# EAGLE library part LSM9DS0 (library sensor)
I2C or SPI type 9 Axis inertial measurement sensor
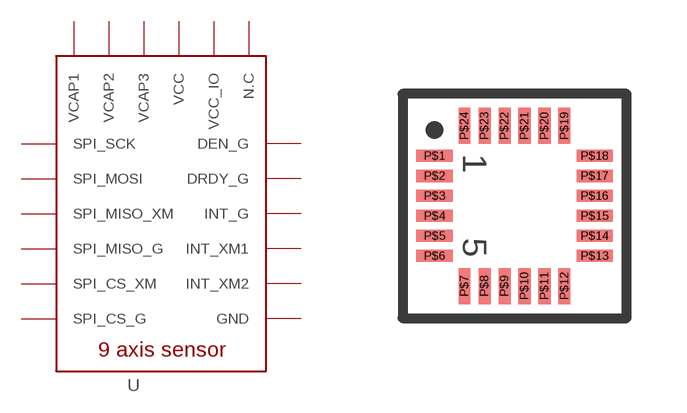
[diagram p0: symbol with the pads of LGA24; footprint LGA24]

Designator prefix U

## LSM9DS0  [LGA24]
P$1  N.C  nc
P$2  GND  sup
P$3  GND  sup
P$4  GND  sup
P$5  GND  sup
P$6  GND  sup
P$7  VCAP1  pas
P$8  VCAP2  pas
P$9  VCAP3  pas
P$10  DEN_G
P$11  INT_G
P$12  DRDY_G
P$13  INT_XM1
P$14  INT_XM2
P$15  VCC  pwr
P$16  VCC  pwr
P$17  VCC  pwr
P$18  VCC_IO  pwr
P$19  SPI_CS_G  in
P$20  SPI_CS_XM  in
P$21  SPI_SCK  in
P$22  SPI_MISO_G  out
P$23  SPI_MISO_XM  out
P$24  SPI_MOSI  in

## Footprint LGA24 (pad centres in mm)
smd 0.9 x 0.3: P$1 -2.25,1.05; P$2 -2.25,0.55; P$3 -2.25,0.05; P$4 -2.25,-0.45; P$5 -2.25,-0.95; P$6 -2.25,-1.45; P$13 1.75,-1.45; P$14 1.75,-0.95; P$15 1.75,-0.45; P$16 1.75,0.05; P$17 1.75,0.55; P$18 1.75,1.05
smd 0.3 x 0.9: P$7 -1.5,-2.2; P$8 -1,-2.2; P$9 -0.5,-2.2; P$10 0,-2.2; P$11 0.5,-2.2; P$12 1,-2.2; P$19 1,1.8; P$20 0.5,1.8; P$21 0,1.8; P$22 -0.5,1.8; P$23 -1,1.8; P$24 -1.5,1.8